# Altium footprint library AIR200.PcbLib: 1 footprints
Each footprint in its own frame and in the unit in brackets; x right, y up, seen from the top. Pads: shape width x height; smd on the part's side, far side on the other; paste and mask are expansions set on the pad; w line width, h text height; cw(c..) or ccw(c..) is an arc to the next point about the centre after c.
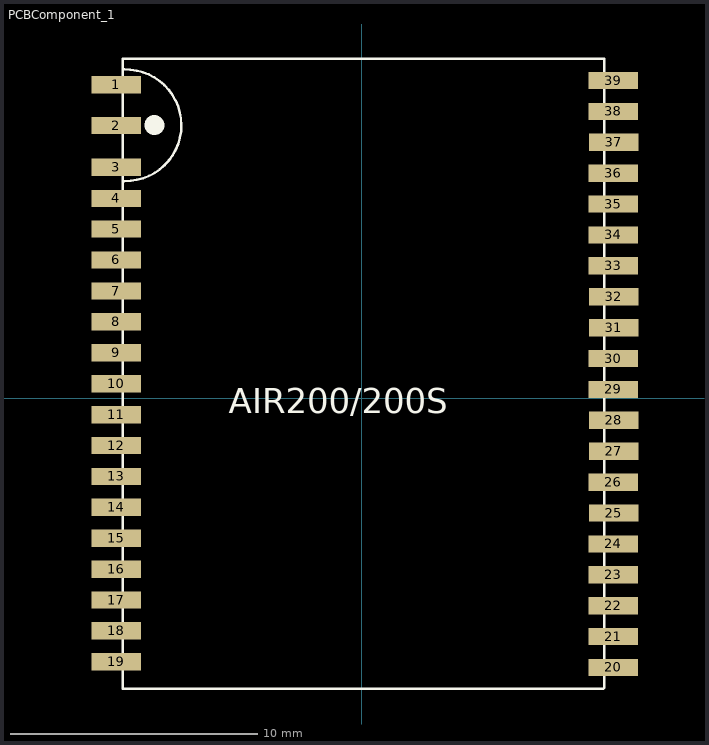
[diagram p0: the footprint, top view; thin cyan lines are the x and y axes]

## PCBComponent_1 [mm]
pads (39):
  rect 2x0.7 smd: 1(-9.94,12.69) 2(-9.94,11.04) 3(-9.94,9.35) 4(-9.94,8.09) 5(-9.94,6.85) 6(-9.94,5.6) 7(-9.94,4.34) 8(-9.94,3.1) 9(-9.94,1.84) 10(-9.94,0.59) 11(-9.94,-0.66) 12(-9.94,-1.91) 13(-9.94,-3.16) 14(-9.94,-4.41) 15(-9.94,-5.66) 16(-9.94,-6.91) 17(-9.94,-8.16) 18(-9.94,-9.41) 19(-9.94,-10.66) 20(10.17,-10.89) 21(10.17,-9.64) 22(10.18,-8.39) 23(10.18,-7.14) 24(10.18,-5.89) 25(10.19,-4.64) 26(10.18,-3.39) 27(10.19,-2.14) 28(10.19,-0.89) 29(10.17,0.36) 30(10.18,1.61) 31(10.19,2.86) 32(10.19,4.11) 33(10.18,5.36) 34(10.18,6.61) 35(10.17,7.86) 36(10.17,9.11) 37(10.19,10.36) 38(10.17,11.61) 39(10.18,12.86)
Top Overlay:
  lines w0.1: -9.621,13.309 cw(c-9.56,11.05) -9.61,8.791 ; -9.68,-11.76 9.76,-11.76 9.81,-11.71 9.81,13.74 -9.68,13.74 -9.68,-11.76
  lines w0.8: -8.4,11.06 -8.39,11.05
  text "AIR200/200S" at -5.39,-0.61 h1